# Altium footprint library 6-SOT.PcbLib: 1 footprints
Each footprint in its own frame and in the unit in brackets; x right, y up, seen from the top. Pads: shape width x height; smd on the part's side, far side on the other; paste and mask are expansions set on the pad; w line width, h text height; cw(c..) or ccw(c..) is an arc to the next point about the centre after c.
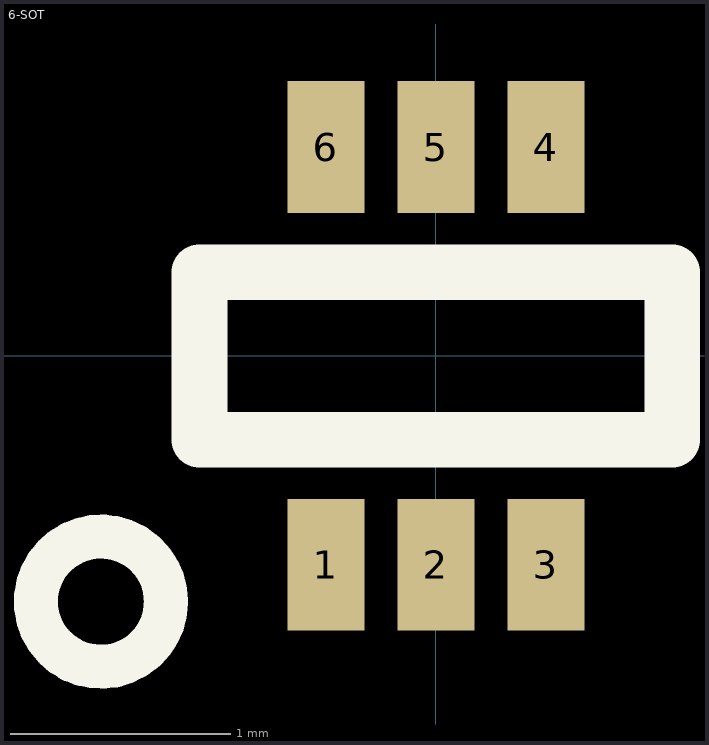
[diagram p0: the footprint, top view; thin cyan lines are the x and y axes]

## 6-SOT [mm]
height 1.1
pads (6):
  rect 0.35x0.6 smd: 1(-0.5,-0.95) 2(0,-0.95) 3(0.5,-0.95) 4(0.5,0.95) 5(0,0.95) 6(-0.5,0.95)
Top Overlay:
  circle w0.2: c-1.524,-1.118 r0.296
  lines w0.254: -1.075,-0.381 -1.075,0.381 1.075,0.381 1.075,-0.381 -1.075,-0.381